# EAGLE library part TS12A44515DR (library nest_interface)
IC SWITCH QUAD SPST 14SOIC
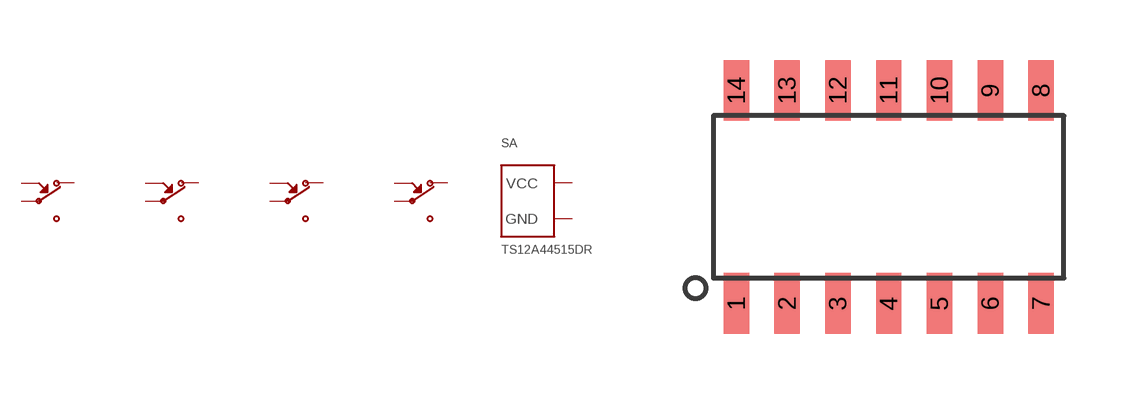
[diagram p10: symbol with the pads of SOIC-14; footprint SOIC-14]

Designator prefix SA

## TS12A44515DR (DIGIKEY: 296-24790-1-ND)  [SOIC-14]
1  NC1
2  COM1
3  NC2
4  COM2
5  IN2
6  IN3
7  GND
8  NC3
9  COM3
10  COM4
11  NC4
12  IN4
13  IN1
14  VCC

## Footprint SOIC-14 (pad centres in mm)
smd 0.635 x 1.524: 1 -3.81,-2.667; 2 -2.54,-2.667; 3 -1.27,-2.667; 4 0,-2.667; 5 1.27,-2.667; 6 2.54,-2.667; 7 3.81,-2.667; 8 3.81,2.667; 9 2.54,2.667; 10 1.27,2.667; 11 0,2.667; 12 -1.27,2.667; 13 -2.54,2.667; 14 -3.81,2.667